# Altium footprint library SamacSys.PcbLib: 14 footprints
Each footprint in its own frame and in the unit in brackets; x right, y up, seen from the top. Pads: shape width x height; smd on the part's side, far side on the other; paste and mask are expansions set on the pad; w line width, h text height; cw(c..) or ccw(c..) is an arc to the next point about the centre after c.
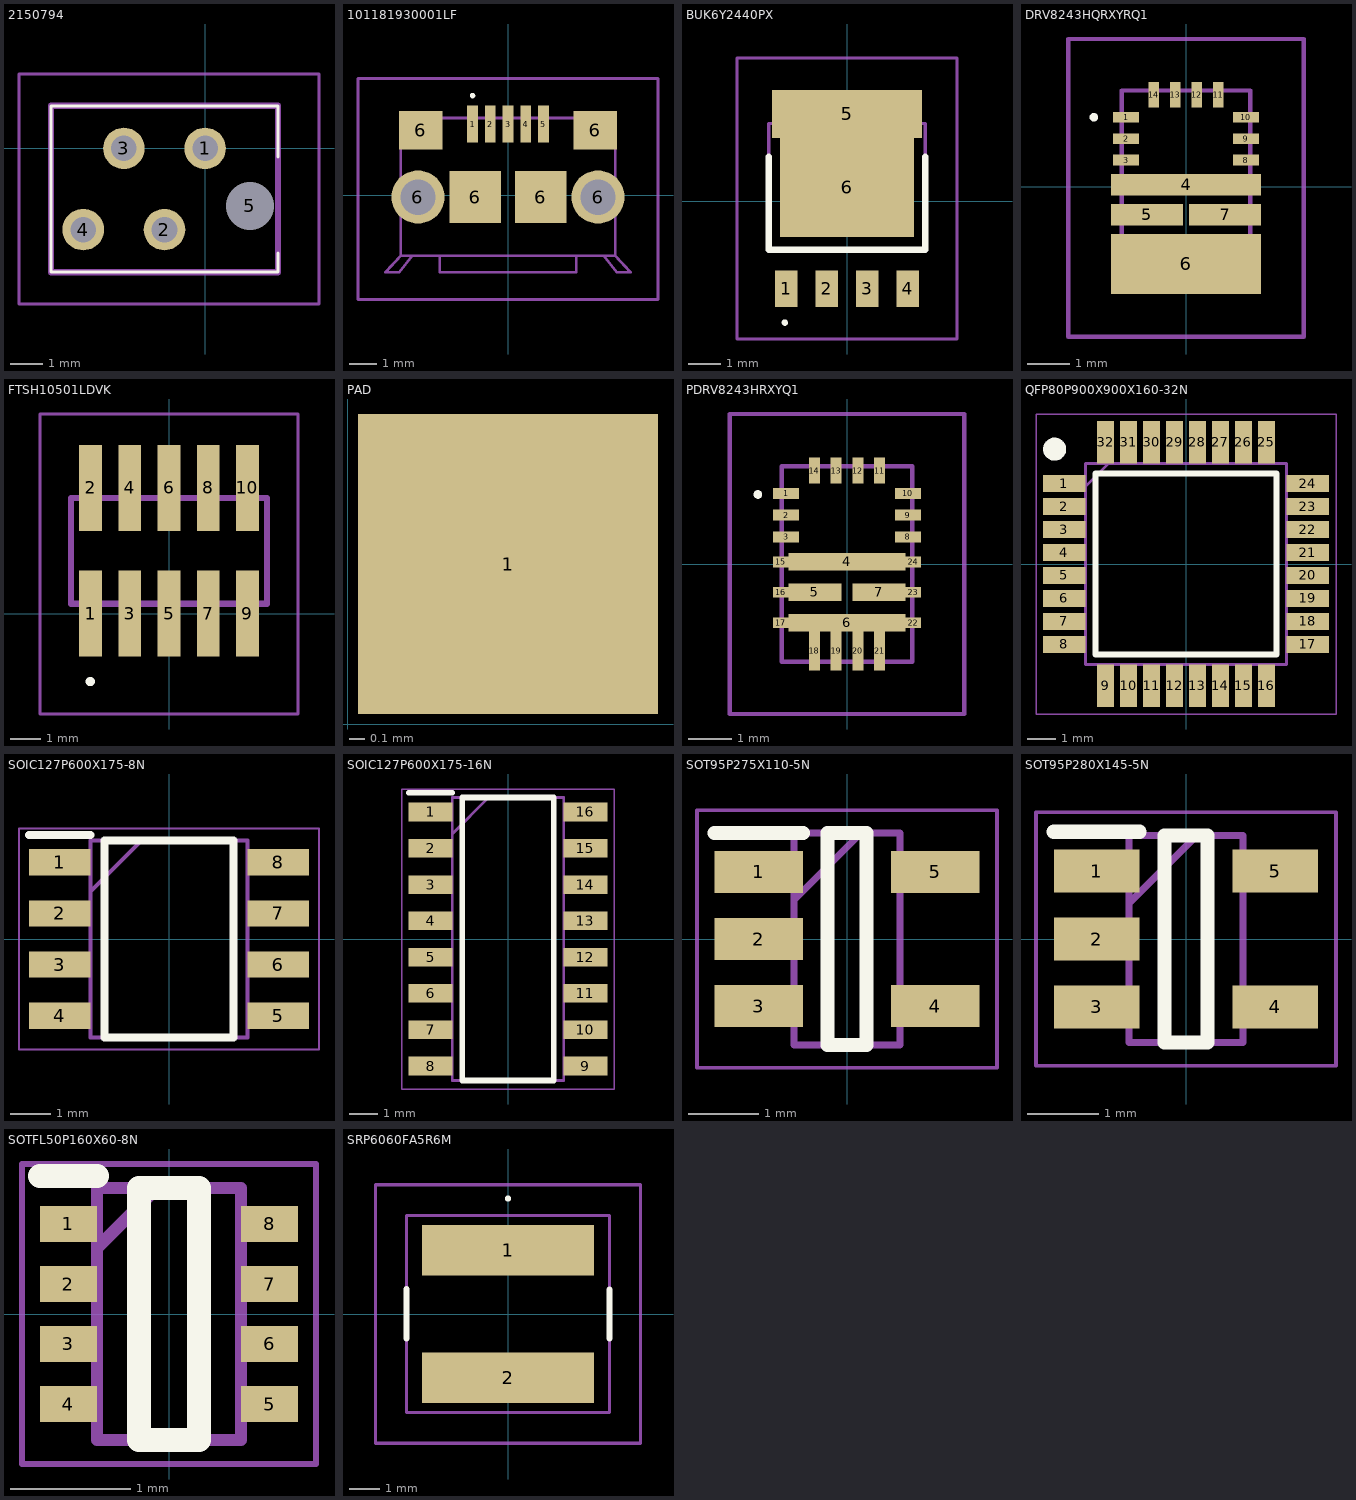
[diagram p0: the footprints below, top view; thin cyan lines are the x and y axes]

## 2150794 [mm]
pads (5):
  round 1.3 hole 0.8: 1(0,0) 2(-1.27,-2.54) 3(-2.54,0) 4(-3.81,-2.54)
  round 0.75 hole 1.5 unplated: 5(1.4,-1.8)
Top Overlay:
  lines w0.1: 2.28,-3.27 2.28,-3.87 -4.82,-3.87 -4.82,1.33 2.28,1.33 2.28,-0.27
Mechanical 13:
  lines w0.2: -4.82,-3.87 2.28,-3.87 2.28,1.33 -4.82,1.33 -4.82,-3.87
Mechanical 15:
  lines w0.1: -5.82,-4.87 3.563,-4.87 3.563,2.33 -5.82,2.33 -5.82,-4.87
3D body "215079-4.stp": height 4.05, standoff -3.1, extent -5.37,-3.77 1.67,1.23

## 101181930001LF [mm]
pads (11):
  rect 0.4x1.35 smd: 1(-1.3,2.605) 2(-0.65,2.605) 3(0,2.605) 4(0.65,2.605) 5(1.3,2.605)
  round 1.95 hole 1.3: 6(-3.3,-0.07) 6(3.3,-0.07)
  rect 1.6x1.4 smd: 6(-3.2,2.38) 6(3.2,2.38)
  rect 1.9x1.9 smd: 6(-1.2,-0.07) 6(1.2,-0.07)
Top Overlay:
  lines w0.1: -1.3,3.6 ccw(c-1.3,3.65) -1.3,3.7 ccw(c-1.3,3.65) -1.3,3.6
Mechanical 13:
  lines w0.1: -3.5,-2.22 -4,-2.83 -4.5,-2.83 -3.93,-2.22 ; -2.5,-2.22 -2.5,-2.83 2.5,-2.83 2.5,-2.22 ; 3.5,-2.22 4,-2.83 4.5,-2.83 3.93,-2.22 ; -3.93,-2.22 3.93,-2.22 ; -3.93,-2.22 -3.93,2.83 3.93,2.83 3.93,-2.22
Mechanical 15:
  lines w0.1: -5.5,-3.83 5.5,-3.83 5.5,4.28 -5.5,4.28 -5.5,-3.83

## BUK6Y2440PX [mm]
pads (6):
  rect 0.7x1.15 smd: 1(-1.905,-2.737) 2(-0.635,-2.737) 3(0.635,-2.737) 4(1.905,-2.737)
  rect 4.7x1.5 smd: 5(0,2.738)
  rect 4.2x3.1 smd: 6(0,0.438)
Top Overlay:
  lines w0.1: -2,-3.8 cw(c-1.95,-3.8) -1.9,-3.8 cw(c-1.95,-3.8) -2,-3.8
  lines w0.2: -2.45,1.4 -2.45,-1.512 2.45,-1.512 2.45,1.4
Mechanical 13:
  lines w0.1: -2.45,-1.512 -2.45,2.438 2.45,2.438 2.45,-1.512 -2.45,-1.512
Mechanical 15:
  lines w0.1: -3.45,-4.313 -3.45,4.488 3.45,4.488 3.45,-4.313 -3.45,-4.313
3D body "BUK6Y24-40PX.stp": height 1, standoff 0, extent -2.405,-2.97 2.405,3.14

## DRV8243HQRXYRQ1 [mm]
pads (14):
  rect 0.6x0.25 smd: 1(-1.4,1.625) 2(-1.4,1.125) 3(-1.4,0.625) 8(1.4,0.625) 9(1.4,1.125) 10(1.4,1.625)
  rect 3.5x0.5 smd: 4(0,0.05)
  rect 1.675x0.5 smd: 5(-0.912,-0.65) 7(0.912,-0.65)
  rect 3.5x1.4 smd: 6(0,-1.8)
  rect 0.25x0.6 smd: 11(0.75,2.15) 12(0.25,2.15) 13(-0.25,2.15) 14(-0.75,2.15)
Top Overlay:
  lines w0.1: -2.2,1.625 cw(c-2.15,1.625) -2.1,1.625 cw(c-2.15,1.625) -2.2,1.625
Mechanical 13:
  lines w0.1: -1.5,-2.25 -1.5,2.25 1.5,2.25 1.5,-2.25 -1.5,-2.25
Mechanical 15:
  lines w0.1: -2.75,-3.5 -2.75,3.45 2.75,3.45 2.75,-3.5 -2.75,-3.5

## FTSH10501LDVK [mm]
pads (10):
  rect 0.74x2.79 smd: 1(-2.54,0) 2(-2.54,4.07) 3(-1.27,0) 4(-1.27,4.07) 5(0,0) 6(0,4.07) 7(1.27,0) 8(1.27,4.07) 9(2.54,0) 10(2.54,4.07)
Top Overlay:
  lines w0.2: -2.6,-2.2 ccw(c-2.55,-2.2) -2.5,-2.2 ; -2.6,-2.2 cw(c-2.55,-2.2) -2.5,-2.2 ; -2.6,-2.2 ccw(c-2.55,-2.2) -2.5,-2.2
Mechanical 13:
  lines w0.2: -3.175,0.32 -3.175,3.75 3.175,3.75 3.175,0.32 -3.175,0.32
Mechanical 15:
  lines w0.1: -4.175,-3.25 -4.175,6.465 4.175,6.465 4.175,-3.25 -4.175,-3.25
3D body "FTSH-105-01-L-DV-K.stp": height 6.13, standoff 0, extent -3.175,-0.925 3.175,4.925

## PAD [mm]
pads (1):
  rect 1.9x1.9 smd: 1(1.016,1.016)

## PDRV8243HRXYQ1 [mm]
pads (24):
  rect 0.6x0.25 smd: 1(-1.4,1.625) 2(-1.4,1.125) 3(-1.4,0.625) 8(1.4,0.625) 9(1.4,1.125) 10(1.4,1.625)
  rect 2.7x0.4 smd: 4(0,0.05) 6(0,-1.35)
  rect 1.225x0.4 smd: 5(-0.737,-0.65) 7(0.738,-0.65)
  rect 0.25x0.6 smd: 11(0.75,2.15) 12(0.25,2.15) 13(-0.25,2.15) 14(-0.75,2.15)
  rect 0.35x0.25 smd: 15(-1.525,0.05) 16(-1.525,-0.65) 17(-1.525,-1.35) 22(1.525,-1.35) 23(1.525,-0.65) 24(1.525,0.05)
  rect 0.25x0.9 smd: 18(-0.75,-2) 19(-0.25,-2) 20(0.25,-2) 21(0.75,-2)
Top Overlay:
  lines w0.1: -2.1,1.6 cw(c-2.05,1.6) -2,1.6 cw(c-2.05,1.6) -2.1,1.6
Mechanical 13:
  lines w0.1: -1.5,-2.25 1.5,-2.25 1.5,2.25 -1.5,2.25 -1.5,-2.25
Mechanical 15:
  lines w0.1: -2.7,-3.45 2.7,-3.45 2.7,3.45 -2.7,3.45 -2.7,-3.45
3D body "PDRV8243HRXYQ1.stp": height 1.1, standoff 0, extent -1.5,-2.25 1.5,2.25

## QFP80P900X900X160-32N [mm]
pads (32):
  rect 1.475x0.6 smd: 1(-4.238,2.8) 2(-4.238,2) 3(-4.238,1.2) 4(-4.238,0.4) 5(-4.238,-0.4) 6(-4.238,-1.2) 7(-4.238,-2) 8(-4.238,-2.8) 17(4.238,-2.8) 18(4.238,-2) 19(4.238,-1.2) 20(4.238,-0.4) 21(4.238,0.4) 22(4.238,1.2) 23(4.238,2) 24(4.238,2.8)
  rect 0.6x1.475 smd: 9(-2.8,-4.238) 10(-2,-4.238) 11(-1.2,-4.238) 12(-0.4,-4.238) 13(0.4,-4.238) 14(1.2,-4.238) 15(2,-4.238) 16(2.8,-4.238) 25(2.8,4.238) 26(2,4.238) 27(1.2,4.238) 28(0.4,4.238) 29(-0.4,4.238) 30(-1.2,4.238) 31(-2,4.238) 32(-2.8,4.238)
Top Overlay:
  circle w0.4: c-4.575,4 r0.2
  lines w0.2: -3.15,-3.15 3.15,-3.15 3.15,3.15 -3.15,3.15 -3.15,-3.15
Mechanical 13:
  lines w0.1: -3.5,2.7 -2.7,3.5 ; -3.5,-3.5 3.5,-3.5 3.5,3.5 -3.5,3.5 -3.5,-3.5
Mechanical 15:
  lines w0.05: -5.225,-5.225 5.225,-5.225 5.225,5.225 -5.225,5.225 -5.225,-5.225
3D body "STM32G441KBT6.stp": height 1.6, standoff 0, extent -4.5,-4.5 4.5,4.5

## SOIC127P600X175-8N [mm]
pads (8):
  rect 1.525x0.65 smd: 1(-2.712,1.905) 2(-2.712,0.635) 3(-2.712,-0.635) 4(-2.712,-1.905) 5(2.712,-1.905) 6(2.712,-0.635) 7(2.712,0.635) 8(2.712,1.905)
Top Overlay:
  lines w0.2: -3.475,2.58 -1.95,2.58 ; -1.6,-2.45 -1.6,2.45 1.6,2.45 1.6,-2.45 -1.6,-2.45
Mechanical 13:
  lines w0.1: -1.95,1.18 -0.68,2.45 ; -1.95,-2.45 -1.95,2.45 1.95,2.45 1.95,-2.45 -1.95,-2.45
Mechanical 15:
  lines w0.05: -3.725,-2.75 -3.725,2.75 3.725,2.75 3.725,-2.75 -3.725,-2.75
3D body "NE555DR.stp": height 1.75, standoff 0, extent -3,-2.45 3,2.45

## SOIC127P600X175-16N [mm]
pads (16):
  rect 1.525x0.65 smd: 1(-2.712,4.445) 2(-2.712,3.175) 3(-2.712,1.905) 4(-2.712,0.635) 5(-2.712,-0.635) 6(-2.712,-1.905) 7(-2.712,-3.175) 8(-2.712,-4.445) 9(2.712,-4.445) 10(2.712,-3.175) 11(2.712,-1.905) 12(2.712,-0.635) 13(2.712,0.635) 14(2.712,1.905) 15(2.712,3.175) 16(2.712,4.445)
Top Overlay:
  lines w0.2: -3.475,5.12 -1.95,5.12 ; -1.6,-4.95 -1.6,4.95 1.6,4.95 1.6,-4.95 -1.6,-4.95
Mechanical 13:
  lines w0.1: -1.95,3.68 -0.68,4.95 ; -1.95,-4.95 -1.95,4.95 1.95,4.95 1.95,-4.95 -1.95,-4.95
Mechanical 15:
  lines w0.05: -3.725,-5.25 -3.725,5.25 3.725,5.25 3.725,-5.25 -3.725,-5.25
3D body "MAX14930EASE+.stp": height 1.75, standoff 0, extent -3,-4.95 3,4.95

## SOT95P275X110-5N [mm]
pads (5):
  rect 1.25x0.6 smd: 1(-1.25,0.95) 2(-1.25,0) 3(-1.25,-0.95) 4(1.25,-0.95) 5(1.25,0.95)
Top Overlay:
  lines w0.2: -1.875,1.5 -0.625,1.5 ; -0.275,-1.5 0.275,-1.5 0.275,1.5 -0.275,1.5 -0.275,-1.5
Mechanical 13:
  lines w0.1: -0.75,0.55 0.2,1.5 ; -0.75,-1.5 0.75,-1.5 0.75,1.5 -0.75,1.5 -0.75,-1.5
Mechanical 15:
  lines w0.05: -2.125,-1.825 2.125,-1.825 2.125,1.825 -2.125,1.825 -2.125,-1.825
3D body "NCP164CSN330T1G.stp": height 1.1, standoff 0, extent -1.375,-1.5 1.375,1.5

## SOT95P280X145-5N [mm]
pads (5):
  rect 1.2x0.6 smd: 1(-1.25,0.95) 2(-1.25,0) 3(-1.25,-0.95) 4(1.25,-0.95) 5(1.25,0.95)
Top Overlay:
  lines w0.2: -1.85,1.5 -0.65,1.5 ; -0.3,-1.45 -0.3,1.45 0.3,1.45 0.3,-1.45 -0.3,-1.45
Mechanical 13:
  lines w0.1: -0.8,0.5 0.15,1.45 ; -0.8,-1.45 -0.8,1.45 0.8,1.45 0.8,-1.45 -0.8,-1.45
Mechanical 15:
  lines w0.05: -2.1,-1.775 -2.1,1.775 2.1,1.775 2.1,-1.775 -2.1,-1.775
3D body "INA139NA.stp": height 1.45, standoff 0, extent -1.4,-1.45 1.4,1.45

## SOTFL50P160X60-8N [mm]
pads (8):
  rect 0.475x0.3 smd: 1(-0.838,0.75) 2(-0.838,0.25) 3(-0.838,-0.25) 4(-0.838,-0.75) 5(0.838,-0.75) 6(0.838,-0.25) 7(0.838,0.25) 8(0.838,0.75)
Top Overlay:
  lines w0.2: -1.075,1.15 -0.6,1.15 ; -0.25,-1.05 -0.25,1.05 0.25,1.05 0.25,-1.05 -0.25,-1.05
Mechanical 13:
  lines w0.1: -0.6,0.55 -0.1,1.05 ; -0.6,-1.05 -0.6,1.05 0.6,1.05 0.6,-1.05 -0.6,-1.05
Mechanical 15:
  lines w0.05: -1.225,-1.25 -1.225,1.25 1.225,1.25 1.225,-1.25 -1.225,-1.25
3D body "TPS62933DRLR.stp": height 0.6, standoff 0, extent -0.8,-1.02 0.8,1.08

## SRP6060FA5R6M [mm]
pads (2):
  rect 5.6x1.65 smd: 1(0,2.075) 2(0,-2.075)
Top Overlay:
  lines w0.1: 0,3.7 cw(c0,3.75) 0,3.8 cw(c0,3.75) 0,3.7
  lines w0.2: -3.3,-0.8 -3.3,0.812 ; 3.3,-0.8 3.3,0.8
Mechanical 13:
  lines w0.1: -3.3,-3.2 -3.3,3.2 3.3,3.2 3.3,-3.2 -3.3,-3.2
Mechanical 15:
  lines w0.1: -4.3,-4.2 -4.3,4.2 4.3,4.2 4.3,-4.2 -4.3,-4.2
3D body "SRP6060FA-5R6M.stp": height 6.1, standoff 0, extent -3.3,-3.2 3.3,3.2